# EAGLE library part STM3210XRXHX (library stm32)
ST STM32F 64 pin TFBGA
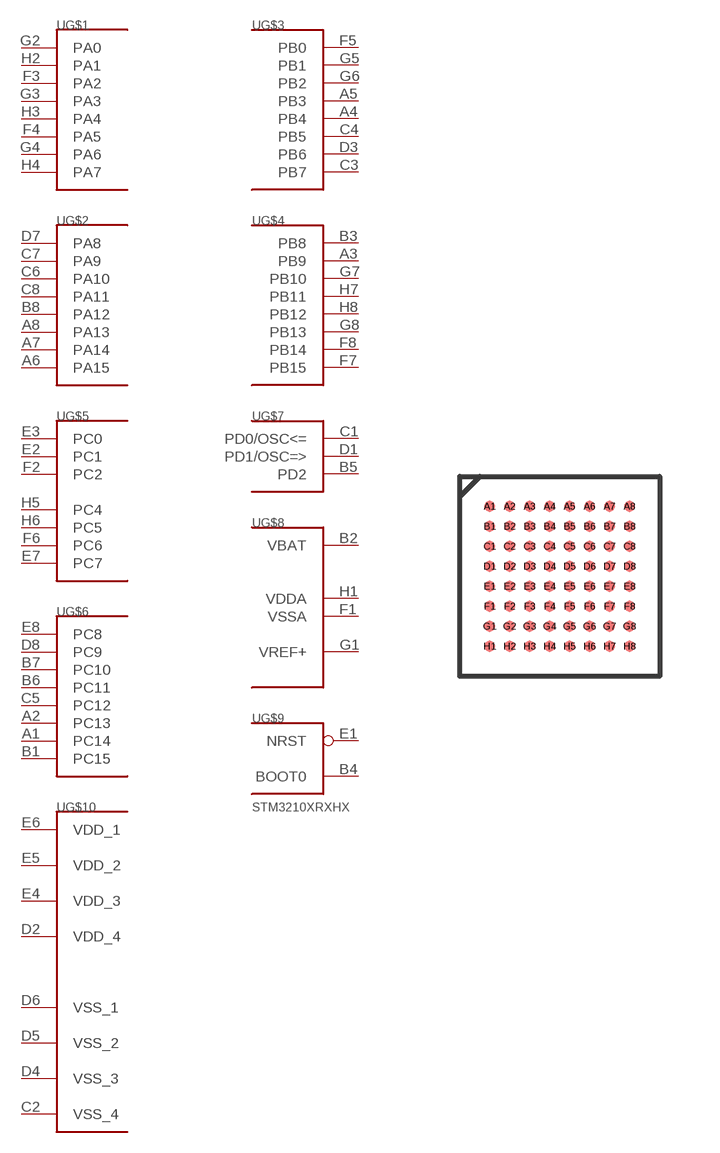
[diagram p4: symbol with the pads of TFBGA64; footprint TFBGA64]

Designator prefix U; gates G$1=PORT_A_L G$2=PORT_A_H G$3=PORT_B_L G$4=PORT_B_H G$5=PORT_C_NOPC3 G$6=PORT_C_H G$7=PORT_D_3 G$9=BOOT_RST G$10=VCC_VDD_M G$8=BAT_AN_NOVREF-

## STM3210XRXHX  [TFBGA64]
A1  G$6:PC14
A2  G$6:PC13
A3  G$4:PB9
A4  G$3:PB4
A5  G$3:PB3
A6  G$2:PA15
A7  G$2:PA14
A8  G$2:PA13
B1  G$6:PC15
B2  G$8:VBAT  pwr
B3  G$4:PB8
B4  G$9:BOOT0  in
B5  G$7:PD2
B6  G$6:PC11
B7  G$6:PC10
B8  G$2:PA12
C1  G$7:PD0/OSC<=
C2  G$10:VSS_4  pwr
C3  G$3:PB7
C4  G$3:PB5
C5  G$6:PC12
C6  G$2:PA10
C7  G$2:PA9
C8  G$2:PA11
D1  G$7:PD1/OSC=>
D2  G$10:VDD_4  pwr
D3  G$3:PB6
D4  G$10:VSS_3  pwr
D5  G$10:VSS_2  pwr
D6  G$10:VSS_1  pwr
D7  G$2:PA8
D8  G$6:PC9
E1  G$9:NRST  in
E2  G$5:PC1
E3  G$5:PC0
E4  G$10:VDD_3  pwr
E5  G$10:VDD_2  pwr
E6  G$10:VDD_1  pwr
E7  G$5:PC7
E8  G$6:PC8
F1  G$8:VSSA  pwr
F2  G$5:PC2
F3  G$1:PA2
F4  G$1:PA5
F5  G$3:PB0
F6  G$5:PC6
F7  G$4:PB15
F8  G$4:PB14
G1  G$8:VREF+  in
G2  G$1:PA0
G3  G$1:PA3
G4  G$1:PA6
G5  G$3:PB1
G6  G$3:PB2
G7  G$4:PB10
G8  G$4:PB13
H1  G$8:VDDA  pwr
H2  G$1:PA1
H3  G$1:PA4
H4  G$1:PA7
H5  G$5:PC4
H6  G$5:PC5
H7  G$4:PB11
H8  G$4:PB12

## Footprint TFBGA64 (pad centres in mm)
64 Ball TFBGA64 0.5mm pitch
smd 0.27 x 0.27: A1 -1.25,1.75; A2 -0.75,1.75; A3 -0.25,1.75; A4 0.25,1.75; A5 0.75,1.75; A6 1.25,1.75; A7 1.75,1.75; A8 2.25,1.75; B1 -1.25,1.25; B2 -0.75,1.25; B3 -0.25,1.25; B4 0.25,1.25; B5 0.75,1.25; B6 1.25,1.25; B7 1.75,1.25; B8 2.25,1.25; C1 -1.25,0.75; C2 -0.75,0.75; C3 -0.25,0.75; C4 0.25,0.75; C5 0.75,0.75; C6 1.25,0.75; C7 1.75,0.75; C8 2.25,0.75; D1 -1.25,0.25; D2 -0.75,0.25; D3 -0.25,0.25; D4 0.25,0.25; D5 0.75,0.25; D6 1.25,0.25; D7 1.75,0.25; D8 2.25,0.25; E1 -1.25,-0.25; E2 -0.75,-0.25; E3 -0.25,-0.25; E4 0.25,-0.25; E5 0.75,-0.25; E6 1.25,-0.25; E7 1.75,-0.25; E8 2.25,-0.25; F1 -1.25,-0.75; F2 -0.75,-0.75; F3 -0.25,-0.75; F4 0.25,-0.75; F5 0.75,-0.75; F6 1.25,-0.75; F7 1.75,-0.75; F8 2.25,-0.75; G1 -1.25,-1.25; G2 -0.75,-1.25; G3 -0.25,-1.25; G4 0.25,-1.25; G5 0.75,-1.25; G6 1.25,-1.25; G7 1.75,-1.25; G8 2.25,-1.25; H1 -1.25,-1.75; H2 -0.75,-1.75; H3 -0.25,-1.75; H4 0.25,-1.75; H5 0.75,-1.75; H6 1.25,-1.75; H7 1.75,-1.75; H8 2.25,-1.75